# EAGLE library part OPAMP (library Tinkercad)
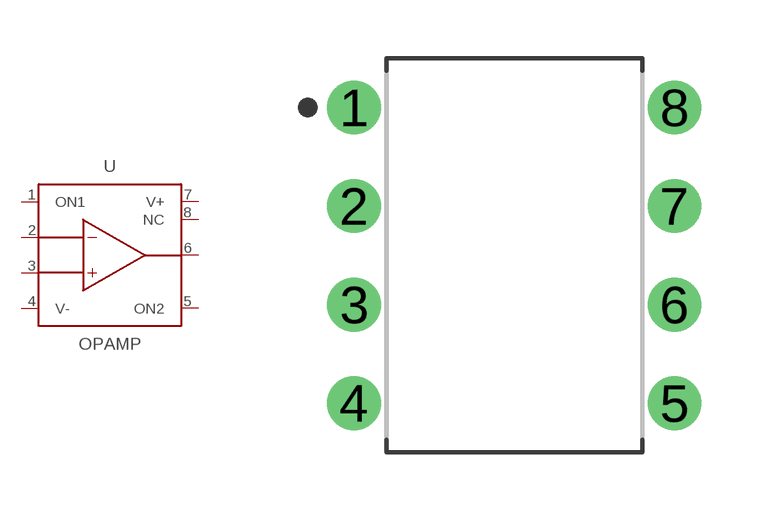
[diagram p48: symbol with the pads of DIP826W53P254L959H508Q8B; footprint DIP826W53P254L959H508Q8B]

Designator prefix -

## OPAMP_DIP  [DIP826W53P254L959H508Q8B]
1  ON1  pas
2  -IN  in
3  +IN  in
4  V-
5  ON2  pas
6  OUT  out
7  V+
8  NC  pas

## Footprint DIP826W53P254L959H508Q8B (pad centres in mm)
8-DIP, 2.54 mm (0.10 in) pitch, 8.26 mm (0.33 in) span, 9.59 X 6.35 X 5.08 mm body 8-pin DIP package with 2.54 mm (0.10 in) pitch, 8.26 mm (0.33 in) span with body size 9.59 X 6.35 X 5.08 mm
drill 0.786 pad 1.386: 1 -4.13,3.81; 2 -4.13,1.27; 3 -4.13,-1.27; 4 -4.13,-3.81; 5 4.13,-3.81; 6 4.13,-1.27; 7 4.13,1.27; 8 4.13,3.81